# Altium footprint library PCB - PHOTORESISTOR - ADVANCED PHOTONIX NSL-19M51.PCBLIB: 1 footprints
Each footprint in its own frame and in the unit in brackets; x right, y up, seen from the top. Pads: shape width x height; smd on the part's side, far side on the other; paste and mask are expansions set on the pad; w line width, h text height; cw(c..) or ccw(c..) is an arc to the next point about the centre after c.
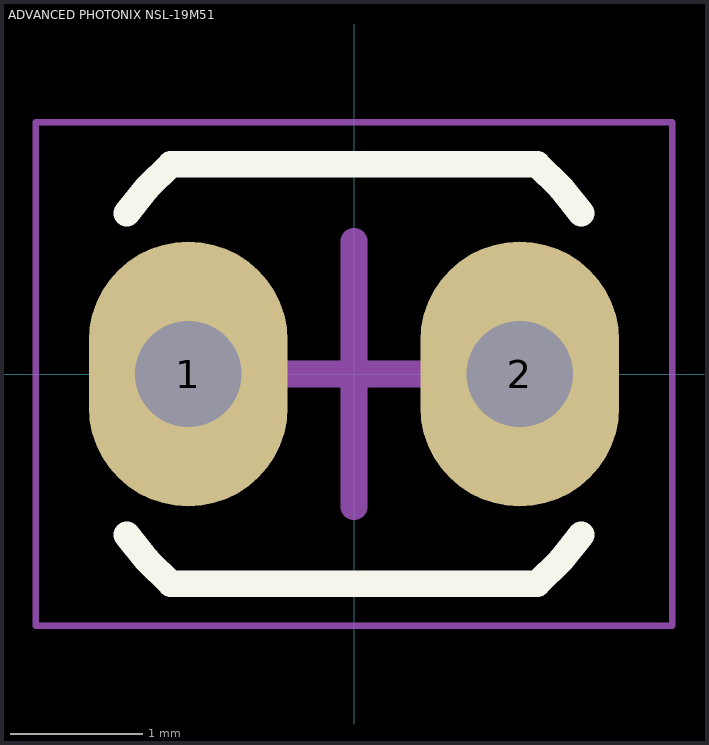
[diagram p0: the footprint, top view; thin cyan lines are the x and y axes]

## ADVANCED PHOTONIX NSL-19M51 [mm] "4mm Photoresistor"
height 1.8
pads (2):
  oval 1.5x2 hole 0.8: 1(-1.25,0) 2(1.25,0)
Top Overlay:
  lines w0.2: -1.716,-1.211 ccw(c0,0) -1.383,-1.58 1.383,-1.58 ccw(c0,0) 1.716,-1.211 ; -1.716,1.211 cw(c0,0) -1.383,1.58 1.383,1.58 cw(c0,0) 1.716,1.211
Mechanical 15:
  lines w0.05: -2.4,-1.9 2.4,-1.9 2.4,1.9 -2.4,1.9 -2.4,-1.9
  lines w0.2: -1,0 1,0 ; 0,-1 0,1
3D body "Advanced Photonix NSL-19M51.step": height 1.8, standoff -2.65, extent -2.15,-1.65 2.15,1.65